# EAGLE library part 7SEGMENT (library ds_displays)
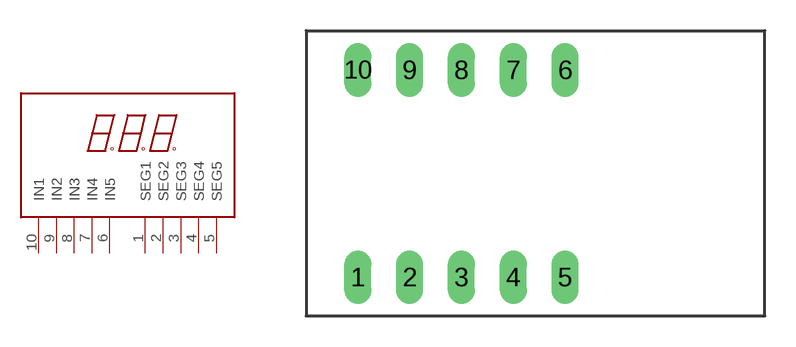
[diagram p3: symbol with the pads of 3X7SEGMENT; footprint 3X7SEGMENT]

Designator prefix DISPLAY

## 7SEGMENT  [3X7SEGMENT]
1  SEG1
2  SEG2
3  SEG3
4  SEG4
5  SEG5
6  IN5
7  IN4
8  IN3
9  IN2
10  IN1

## Footprint 3X7SEGMENT (pad centres in mm)
drill 0.813 long: 1 -8.255,-5.08; 2 -5.715,-5.08; 3 -3.175,-5.08; 4 -0.635,-5.08; 5 1.905,-5.08; 6 1.905,5.08; 7 -0.635,5.08; 8 -3.175,5.08; 9 -5.715,5.08; 10 -8.255,5.08